# Altium footprint library PcbLib1.PcbLib: 8 footprints
Each footprint in its own frame and in the unit in brackets; x right, y up, seen from the top. Pads: shape width x height; smd on the part's side, far side on the other; paste and mask are expansions set on the pad; w line width, h text height; cw(c..) or ccw(c..) is an arc to the next point about the centre after c.
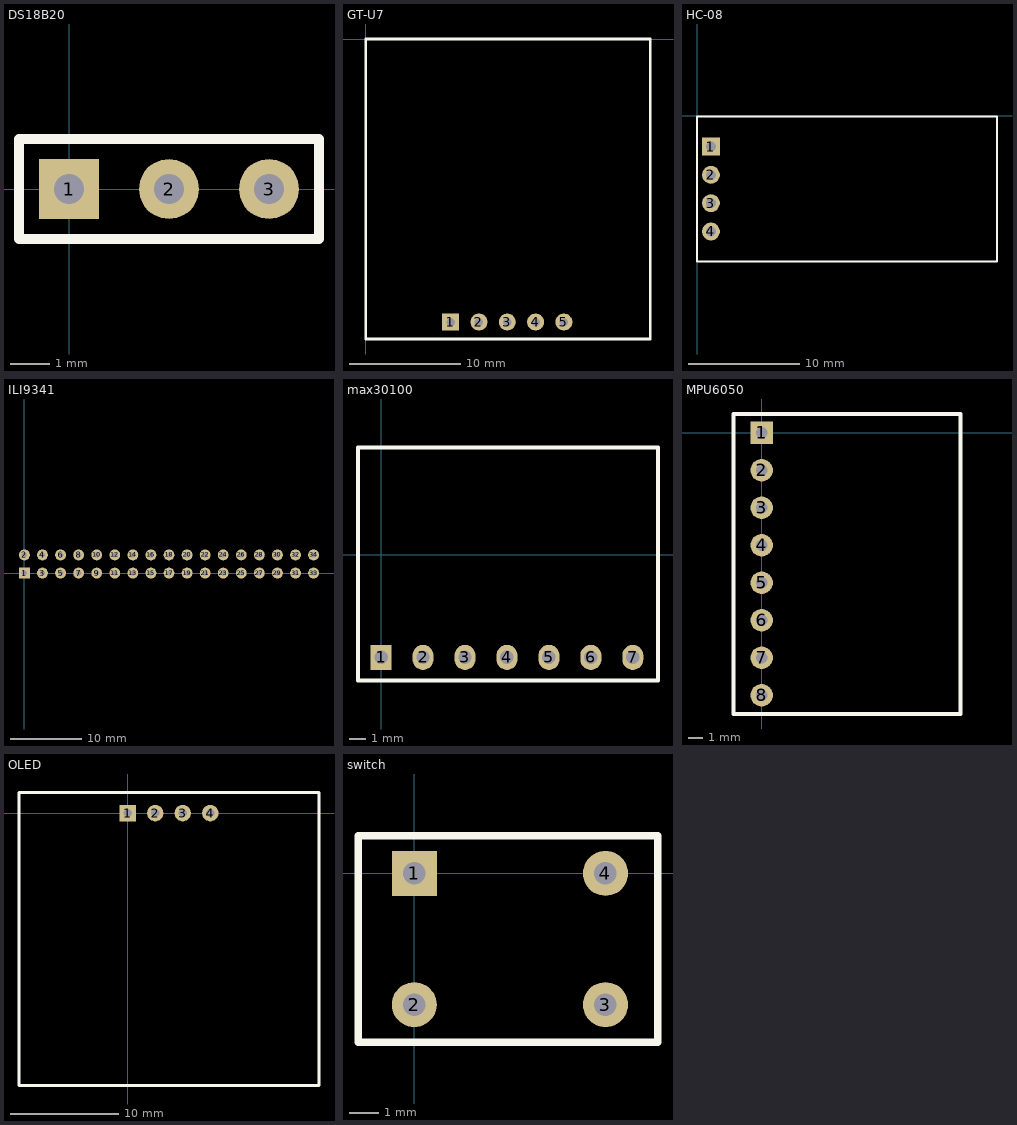
[diagram p0: the footprints below, top view; thin cyan lines are the x and y axes]

## DS18B20 [mil]
pads (3):
  rect 60x60 hole 30: 1(0,0)
  round 60 hole 30: 2(100,0) 3(200,0)
Top Overlay:
  lines w10: -50,-50 -50,50 250,50 250,-50 -50,-50

## GT-U7 [mil]
pads (5):
  rect 60x60 hole 30: 1(300,-1000)
  round 60 hole 30: 2(400,-1000) 3(500,-1000) 4(600,-1000) 5(700,-1000)
Top Overlay:
  lines w10: 0,-1060 0,-1025 0,0 1005,0 1005,-1060 0,-1060

## HC-08 [mm]
pads (4):
  rect 1.6x1.6 hole 0.9: 1(1.233,-2.746)
  round 1.6 hole 0.9: 2(1.233,-5.286) 3(1.233,-7.826) 4(1.233,-10.366)
Top Overlay:
  lines w0.152: -0.017,-13.056 26.883,-13.056 26.883,-0.056 -0.017,-0.056 -0.017,-13.056

## ILI9341 [mil]
pads (34):
  rect 60x60 hole 30: 1(0,0)
  round 60 hole 30: 2(0,100) 3(100,0) 4(100,100) 5(200,0) 6(200,100) 7(300,0) 8(300,100) 9(400,0) 10(400,100) 11(500,0) 12(500,100) 13(600,0) 14(600,100) 15(700,0) 16(700,100) 17(800,0) 18(800,100) 19(900,0) 20(900,100) 21(1000,0) 22(1000,100) 23(1100,0) 24(1100,100) 25(1200,0) 26(1200,100) 27(1300,0) 28(1300,100) 29(1400,0) 30(1400,100) 31(1500,0) 32(1500,100) 33(1600,0) 34(1600,100)

## max30100 [mil]
pads (7):
  rect 50x60 hole 32: 1(0,-245.13)
  oval 50x60 hole 32: 2(100,-245.13) 3(200,-245.13) 4(300,-245.13) 5(400,-245.13) 6(500,-245.13) 7(600,-245.13)
Top Overlay:
  lines w10: -55,-300 -55,255 660,255 660,-300 -55,-300

## MPU6050 [mil]
pads (8):
  rect 60x60 hole 30: 1(0,0)
  round 60 hole 30: 2(0,-100) 3(0,-200) 4(0,-300) 5(0,-400) 6(0,-500) 7(0,-600) 8(0,-700)
Top Overlay:
  lines w10: -75,-750 530,-750 530,50 -75,50 -75,-750

## OLED [mil]
pads (4):
  rect 60x60 hole 30: 1(0,0)
  round 60 hole 30: 2(100,0) 3(200,0) 4(300,0)
Top Overlay:
  lines w10: -395,-990 695,-990 695,75 300,75 0,75 -395,75 -395,-990

## switch [mil]
pads (4):
  rect 60x60 hole 30: 1(0,0)
  round 60 hole 30: 2(0,-175) 3(255,-175) 4(255,0)
Top Overlay:
  lines w10: -75,-225 -75,50 325,50 325,-225 -75,-225